# Altium footprint library TOP3.PcbLib: 1 footprints
Each footprint in its own frame and in the unit in brackets; x right, y up, seen from the top. Pads: shape width x height; smd on the part's side, far side on the other; paste and mask are expansions set on the pad; w line width, h text height; cw(c..) or ccw(c..) is an arc to the next point about the centre after c.
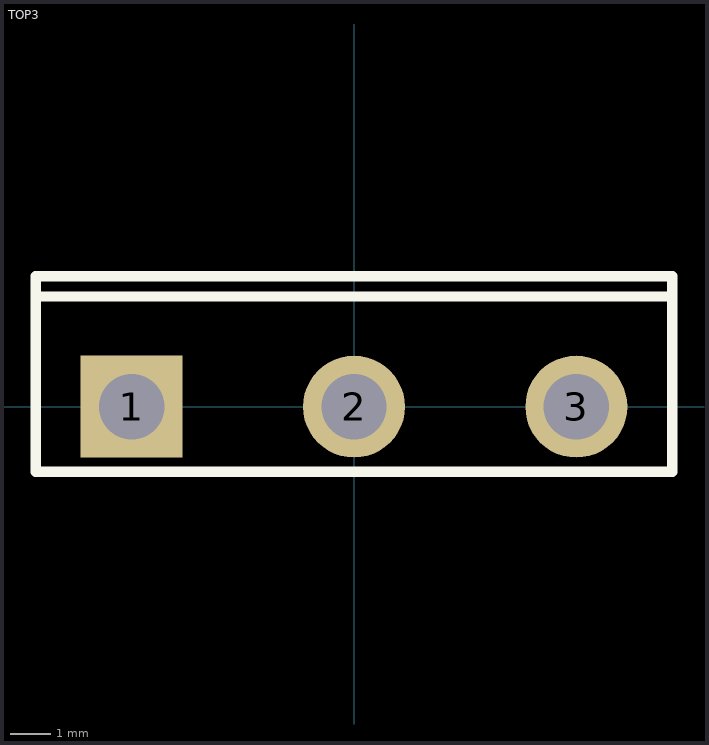
[diagram p0: the footprint, top view; thin cyan lines are the x and y axes]

## TOP3 [mm]
pads (3):
  rect 2.5x2.5 hole 1.6: 1(-5.45,0)
  round 2.5 hole 1.6: 2(0,0) 3(5.45,0)
Top Overlay:
  lines w0.254: -7.8,2.7 7.8,2.7 ; -7.8,-1.6 -7.8,3.2 7.8,3.2 7.8,-1.6 -7.8,-1.6